# Altium integrated library Linear Technology Power Management LDO Linear Regulators.IntLib: 2339 symbols (part 2 of 131)
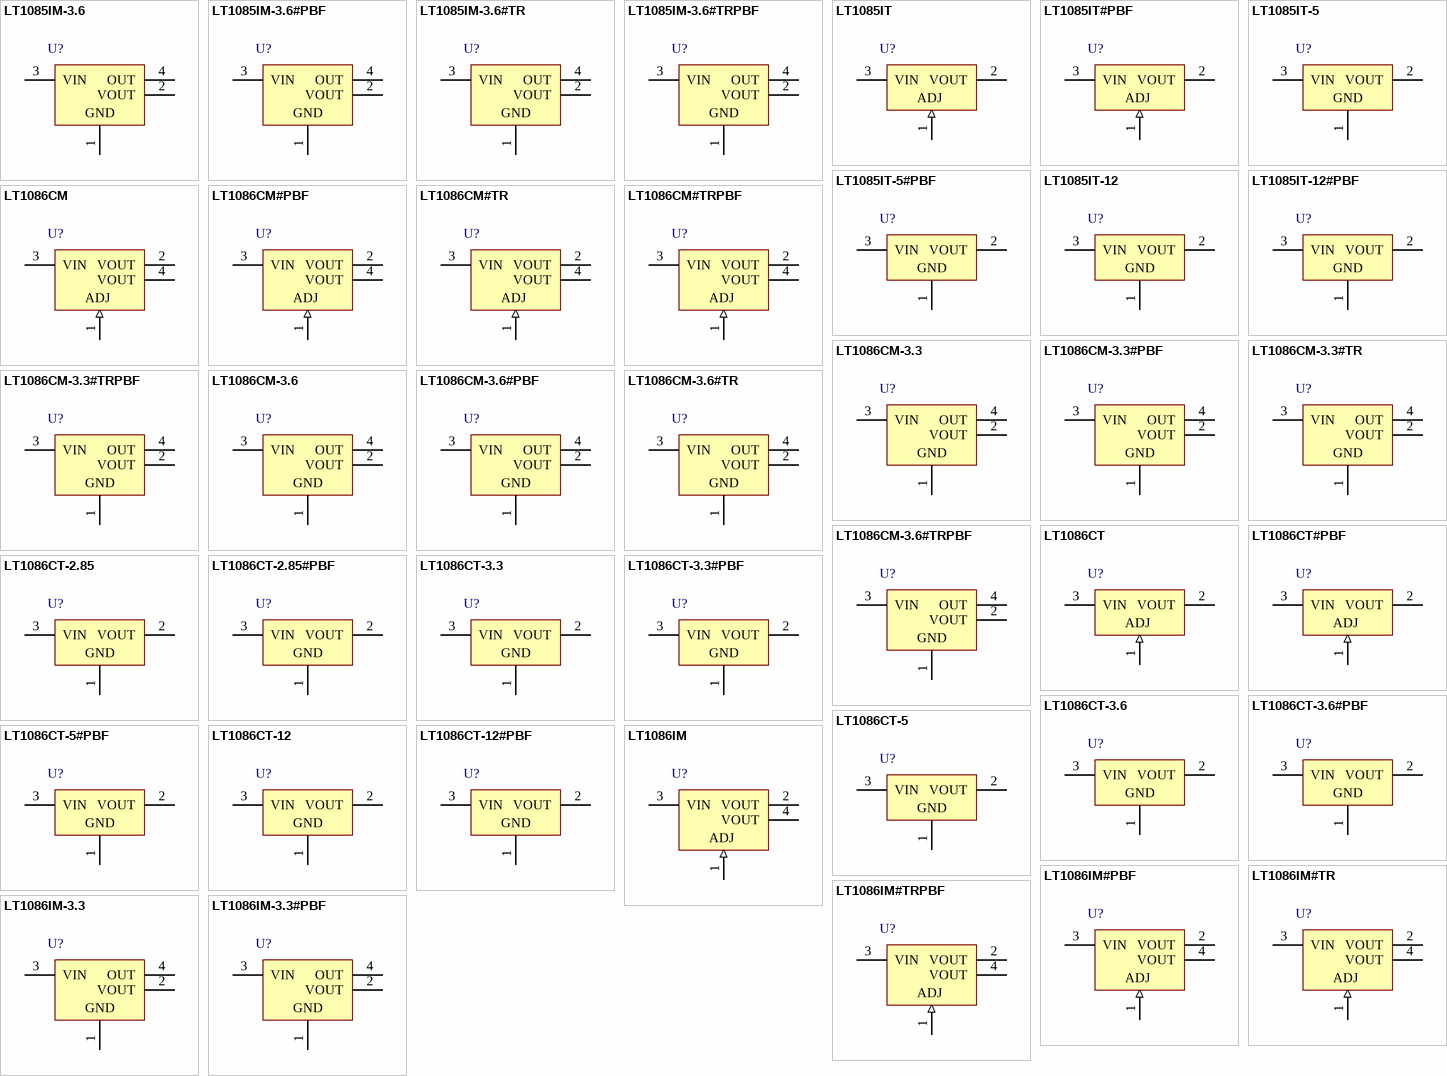
[diagram p70: symbols LT1085IM-3.6 to LT1086IM-3.3#PBF]

## LT1085IM-3.6
designator U?
3 A Low Dropout Positive Regulator, 4.3 to 25 V Vin, 3.6 V Vout, 3-pin DPAK (M-3), -40 to 150 degC; Manufacturer: Linear Technology; PartNumber: LT1085IM-3.6; Discrete Pass Element: no; Dropout Voltage(V): 1.3; Iout(mA): 3000; Isupply(mA): 5; Number of Outputs: 1; Output Voltage: 3.6 V; PSRR(dB): 72; Vin Max(V): 25; Vin Min(V): 4.3; DatasheetVersion: Rev. D; PackageVersion: Rev. F, 05/2012; PackageReference: M-3; PackageDescription: 3-Pin Plastic DD Pak, Body 10.2235 x 8.89 mm, Pitch 2.54 mm; Supplier 1: Digi-Key; Supplier Part Number 1: LT1085IM-3.6-ND; RoHS: FALSE; Mounting Technology: Surface Mount; ComponentLink1Description: Manufacturer URL; ComponentLink1URL: http://www.linear.com/; ComponentLink2Description: Datasheet; ComponentLink2URL: http://cds.linear.com/docs/en/datasheet/1083ffd.pdf; ComponentLink3Description: Package Specification; ComponentLink3URL: http://cds.linear.com/docs/en/packaging/05081460_F_M.pdf
footprint LT-M-3_N (DPAK, 3-Leads, Body 10.55x9.4mm, Pitch 2.54mm, IPC Medium Density)
footprint LT-M-3_L (DPAK, 3-Leads, Body 10.55x9.4mm, Pitch 2.54mm, IPC High Density)
footprint LT-M-3_M (DPAK, 3-Leads, Body 10.55x9.4mm, Pitch 2.54mm, IPC Low Density)
pins: 1 GND (power), 2 VOUT (power), 3 VIN (power), 4 OUT (power)

## LT1085IM-3.6#PBF
designator U?
3 A Low Dropout Positive Regulator, 4.3 to 25 V Vin, 3.6 V Vout, 3-pin DPAK (M-3), -40 to 150 degC, Pb-Free; Manufacturer: Linear Technology; PartNumber: LT1085IM-3.6#PBF; Discrete Pass Element: no; Dropout Voltage(V): 1.3; Iout(mA): 3000; Isupply(mA): 5; Number of Outputs: 1; Output Voltage: 3.6 V; PSRR(dB): 72; Vin Max(V): 25; Vin Min(V): 4.3; DatasheetVersion: Rev. D; PackageVersion: Rev. F, 05/2012; PackageReference: M-3; PackageDescription: 3-Pin Plastic DD Pak, Body 10.2235 x 8.89 mm, Pitch 2.54 mm; Supplier 1: Newark; Supplier Part Number 1: 57M1524; RoHS: TRUE; Mounting Technology: Surface Mount; ComponentLink1Description: Manufacturer URL; ComponentLink1URL: http://www.linear.com/; ComponentLink2Description: Datasheet; ComponentLink2URL: http://cds.linear.com/docs/en/datasheet/1083ffd.pdf; ComponentLink3Description: Package Specification; ComponentLink3URL: http://cds.linear.com/docs/en/packaging/05081460_F_M.pdf
footprint LT-M-3_N (DPAK, 3-Leads, Body 10.55x9.4mm, Pitch 2.54mm, IPC Medium Density)
footprint LT-M-3_L (DPAK, 3-Leads, Body 10.55x9.4mm, Pitch 2.54mm, IPC High Density)
footprint LT-M-3_M (DPAK, 3-Leads, Body 10.55x9.4mm, Pitch 2.54mm, IPC Low Density)
pins: 1 GND (power), 2 VOUT (power), 3 VIN (power), 4 OUT (power)

## LT1085IM-3.6#TR
designator U?
3 A Low Dropout Positive Regulator, 4.3 to 25 V Vin, 3.6 V Vout, 3-pin DPAK (M-3), -40 to 150 degC, Tape and Reel; Manufacturer: Linear Technology; PartNumber: LT1085IM-3.6#TR; Discrete Pass Element: no; Dropout Voltage(V): 1.3; Iout(mA): 3000; Isupply(mA): 5; Number of Outputs: 1; Output Voltage: 3.6 V; PSRR(dB): 72; Vin Max(V): 25; Vin Min(V): 4.3; DatasheetVersion: Rev. D; PackageVersion: Rev. F, 05/2012; PackageReference: M-3; PackageDescription: 3-Pin Plastic DD Pak, Body 10.2235 x 8.89 mm, Pitch 2.54 mm; Supplier 1: Digi-Key; Supplier Part Number 1: LT1085IM-3.6#TR-ND; Packing: Tape and Reel; RoHS: FALSE; Mounting Technology: Surface Mount; ComponentLink1Description: Manufacturer URL; ComponentLink1URL: http://www.linear.com/; ComponentLink2Description: Datasheet; ComponentLink2URL: http://cds.linear.com/docs/en/datasheet/1083ffd.pdf; ComponentLink3Description: Package Specification; ComponentLink3URL: http://cds.linear.com/docs/en/packaging/05081460_F_M.pdf
footprint LT-M-3_N (DPAK, 3-Leads, Body 10.55x9.4mm, Pitch 2.54mm, IPC Medium Density)
footprint LT-M-3_L (DPAK, 3-Leads, Body 10.55x9.4mm, Pitch 2.54mm, IPC High Density)
footprint LT-M-3_M (DPAK, 3-Leads, Body 10.55x9.4mm, Pitch 2.54mm, IPC Low Density)
pins: 1 GND (power), 2 VOUT (power), 3 VIN (power), 4 OUT (power)

## LT1085IM-3.6#TRPBF
designator U?
3 A Low Dropout Positive Regulator, 4.3 to 25 V Vin, 3.6 V Vout, 3-pin DPAK (M-3), -40 to 150 degC, Pb-Free, Tape and Reel; Manufacturer: Linear Technology; PartNumber: LT1085IM-3.6#TRPBF; Discrete Pass Element: no; Dropout Voltage(V): 1.3; Iout(mA): 3000; Isupply(mA): 5; Number of Outputs: 1; Output Voltage: 3.6 V; PSRR(dB): 72; Vin Max(V): 25; Vin Min(V): 4.3; DatasheetVersion: Rev. D; PackageVersion: Rev. F, 05/2012; PackageReference: M-3; PackageDescription: 3-Pin Plastic DD Pak, Body 10.2235 x 8.89 mm, Pitch 2.54 mm; Supplier 1: Digi-Key; Supplier Part Number 1: LT1085IM-3.6#TRPBF-ND; Packing: Tape and Reel; RoHS: TRUE; Mounting Technology: Surface Mount; ComponentLink1Description: Manufacturer URL; ComponentLink1URL: http://www.linear.com/; ComponentLink2Description: Datasheet; ComponentLink2URL: http://cds.linear.com/docs/en/datasheet/1083ffd.pdf; ComponentLink3Description: Package Specification; ComponentLink3URL: http://cds.linear.com/docs/en/packaging/05081460_F_M.pdf
footprint LT-M-3_N (DPAK, 3-Leads, Body 10.55x9.4mm, Pitch 2.54mm, IPC Medium Density)
footprint LT-M-3_L (DPAK, 3-Leads, Body 10.55x9.4mm, Pitch 2.54mm, IPC High Density)
footprint LT-M-3_M (DPAK, 3-Leads, Body 10.55x9.4mm, Pitch 2.54mm, IPC Low Density)
pins: 1 GND (power), 2 VOUT (power), 3 VIN (power), 4 OUT (power)

## LT1085IT
designator U?
3 A Low Dropout Positive Regulator, 2.55 to 30 V Vin, Adjustable Vout, 3-pin FM (T-3), -40 to 150 degC; Manufacturer: Linear Technology; PartNumber: LT1085IT; Discrete Pass Element: no; Dropout Voltage(V): 1.3; Iout(mA): 3000; Isupply(mA): 5; Number of Outputs: 1; Output Voltage: Adj; PSRR(dB): 75; Vin Max(V): 30; Vin Min(V): 2.55; Vout Max(V): 28.5; Vout Min(V): 1.25; DatasheetVersion: Rev. G; PackageVersion: Jun-10; PackageReference: T-3; PackageDescription: 3-Pin Plastic TO-220, Body 10.2235 x 4.3815 mm, Pitch 2.54 mm; Supplier 1: Digi-Key; Supplier Part Number 1: LT1085IT-ND; Supplier 2: Newark; Supplier Part Number 2: 57M1527; RoHS: FALSE; Mounting Technology: Through Hole; ComponentLink1Description: Manufacturer URL; ComponentLink1URL: http://www.linear.com/; ComponentLink2Description: Datasheet; ComponentLink2URL: http://cds.linear.com/docs/en/datasheet/108345fg.pdf; ComponentLink3Description: Package Specification; ComponentLink3URL: http://cds.linear.com/docs/en/packaging/TO-220_3_05-08-1420.pdf
footprint LT-T-3 (T, 3-Leads, Body 10.55x4.6mm, Pitch 2.54mm)
pins: 1 ADJ (in), 2 VOUT (power), 3 VIN (power)

## LT1085IT#PBF
designator U?
3 A Low Dropout Positive Regulator, 2.55 to 30 V Vin, Adjustable Vout, 3-pin FM (T-3), -40 to 150 degC, Pb-Free; Manufacturer: Linear Technology; PartNumber: LT1085IT#PBF; Discrete Pass Element: no; Dropout Voltage(V): 1.3; Iout(mA): 3000; Isupply(mA): 5; Number of Outputs: 1; Output Voltage: Adj; PSRR(dB): 75; Vin Max(V): 30; Vin Min(V): 2.55; Vout Max(V): 28.5; Vout Min(V): 1.25; DatasheetVersion: Rev. G; PackageVersion: Jun-10; PackageReference: T-3; PackageDescription: 3-Pin Plastic TO-220, Body 10.2235 x 4.3815 mm, Pitch 2.54 mm; Supplier 1: Digi-Key; Supplier Part Number 1: LT1085IT#PBF-ND; Supplier 2: Farnell; Supplier Part Number 2: 2115899; Supplier 3: Newark; Supplier Part Number 3: 57M1532; RoHS: TRUE; Mounting Technology: Through Hole; ComponentLink1Description: Manufacturer URL; ComponentLink1URL: http://www.linear.com/; ComponentLink2Description: Datasheet; ComponentLink2URL: http://cds.linear.com/docs/en/datasheet/108345fg.pdf; ComponentLink3Description: Package Specification; ComponentLink3URL: http://cds.linear.com/docs/en/packaging/TO-220_3_05-08-1420.pdf
footprint LT-T-3 (T, 3-Leads, Body 10.55x4.6mm, Pitch 2.54mm)
pins: 1 ADJ (in), 2 VOUT (power), 3 VIN (power)

## LT1085IT-5
designator U?
3 A Low Dropout Positive Regulator, 4.3 to 25 V Vin, 5 V Vout, 3-pin FM (T-3), -40 to 150 degC; Manufacturer: Linear Technology; PartNumber: LT1085IT-5; Discrete Pass Element: no; Dropout Voltage(V): 1.3; Iout(mA): 3000; Isupply(mA): 5; Number of Outputs: 1; Output Voltage: 5 V; PSRR(dB): 72; Vin Max(V): 25; Vin Min(V): 4.3; DatasheetVersion: Rev. D; PackageVersion: Jun-10; PackageReference: T-3; PackageDescription: 3-Pin Plastic TO-220, Body 10.2235 x 4.3815 mm, Pitch 2.54 mm; Supplier 1: Digi-Key; Supplier Part Number 1: LT1085IT-5-ND; RoHS: FALSE; Mounting Technology: Through Hole; ComponentLink1Description: Manufacturer URL; ComponentLink1URL: http://www.linear.com/; ComponentLink2Description: Datasheet; ComponentLink2URL: http://cds.linear.com/docs/en/datasheet/1083ffd.pdf; ComponentLink3Description: Package Specification; ComponentLink3URL: http://cds.linear.com/docs/en/packaging/TO-220_3_05-08-1420.pdf
footprint LT-T-3 (T, 3-Leads, Body 10.55x4.6mm, Pitch 2.54mm)
pins: 1 GND (power), 2 VOUT (power), 3 VIN (power)

## LT1085IT-5#PBF
designator U?
3 A Low Dropout Positive Regulator, 4.3 to 25 V Vin, 5 V Vout, 3-pin FM (T-3), -40 to 150 degC, Pb-Free; Manufacturer: Linear Technology; PartNumber: LT1085IT-5#PBF; Discrete Pass Element: no; Dropout Voltage(V): 1.3; Iout(mA): 3000; Isupply(mA): 5; Number of Outputs: 1; Output Voltage: 5 V; PSRR(dB): 72; Vin Max(V): 25; Vin Min(V): 4.3; DatasheetVersion: Rev. D; PackageVersion: Jun-10; PackageReference: T-3; PackageDescription: 3-Pin Plastic TO-220, Body 10.2235 x 4.3815 mm, Pitch 2.54 mm; Supplier 1: Digi-Key; Supplier Part Number 1: LT1085IT-5#PBF-ND; RoHS: TRUE; Mounting Technology: Through Hole; ComponentLink1Description: Manufacturer URL; ComponentLink1URL: http://www.linear.com/; ComponentLink2Description: Datasheet; ComponentLink2URL: http://cds.linear.com/docs/en/datasheet/1083ffd.pdf; ComponentLink3Description: Package Specification; ComponentLink3URL: http://cds.linear.com/docs/en/packaging/TO-220_3_05-08-1420.pdf
footprint LT-T-3 (T, 3-Leads, Body 10.55x4.6mm, Pitch 2.54mm)
pins: 1 GND (power), 2 VOUT (power), 3 VIN (power)

## LT1085IT-12
designator U?
3 A Low Dropout Positive Regulator, 4.3 to 25 V Vin, 12 V Vout, 3-pin FM (T-3), -40 to 150 degC; Manufacturer: Linear Technology; PartNumber: LT1085IT-12; Discrete Pass Element: no; Dropout Voltage(V): 1.3; Iout(mA): 3000; Isupply(mA): 5; Number of Outputs: 1; Output Voltage: 12 V; PSRR(dB): 72; Vin Max(V): 25; Vin Min(V): 4.3; DatasheetVersion: Rev. D; PackageVersion: Jun-10; PackageReference: T-3; PackageDescription: 3-Pin Plastic TO-220, Body 10.2235 x 4.3815 mm, Pitch 2.54 mm; Supplier 1: Digi-Key; Supplier Part Number 1: LT1085IT-12-ND; RoHS: FALSE; Mounting Technology: Through Hole; ComponentLink1Description: Manufacturer URL; ComponentLink1URL: http://www.linear.com/; ComponentLink2Description: Datasheet; ComponentLink2URL: http://cds.linear.com/docs/en/datasheet/1083ffd.pdf; ComponentLink3Description: Package Specification; ComponentLink3URL: http://cds.linear.com/docs/en/packaging/TO-220_3_05-08-1420.pdf
footprint LT-T-3 (T, 3-Leads, Body 10.55x4.6mm, Pitch 2.54mm)
pins: 1 GND (power), 2 VOUT (power), 3 VIN (power)

## LT1085IT-12#PBF
designator U?
3 A Low Dropout Positive Regulator, 4.3 to 25 V Vin, 12 V Vout, 3-pin FM (T-3), -40 to 150 degC, Pb-Free; Manufacturer: Linear Technology; PartNumber: LT1085IT-12#PBF; Discrete Pass Element: no; Dropout Voltage(V): 1.3; Iout(mA): 3000; Isupply(mA): 5; Number of Outputs: 1; Output Voltage: 12 V; PSRR(dB): 72; Vin Max(V): 25; Vin Min(V): 4.3; DatasheetVersion: Rev. D; PackageVersion: Jun-10; PackageReference: T-3; PackageDescription: 3-Pin Plastic TO-220, Body 10.2235 x 4.3815 mm, Pitch 2.54 mm; Supplier 1: Digi-Key; Supplier Part Number 1: LT1085IT-12#PBF-ND; Supplier 2: Newark; Supplier Part Number 2: 57M1529; RoHS: TRUE; Mounting Technology: Through Hole; ComponentLink1Description: Manufacturer URL; ComponentLink1URL: http://www.linear.com/; ComponentLink2Description: Datasheet; ComponentLink2URL: http://cds.linear.com/docs/en/datasheet/1083ffd.pdf; ComponentLink3Description: Package Specification; ComponentLink3URL: http://cds.linear.com/docs/en/packaging/TO-220_3_05-08-1420.pdf
footprint LT-T-3 (T, 3-Leads, Body 10.55x4.6mm, Pitch 2.54mm)
pins: 1 GND (power), 2 VOUT (power), 3 VIN (power)

## LT1086CM
designator U?
1.5 A Low Dropout Positive Regulator, 2.55 to 25 V Vin, Adjustable Vout, 3-pin DPAK (M-3), 0 to 150 degC; Manufacturer: Linear Technology; PartNumber: LT1086CM; Discrete Pass Element: no; Dropout Voltage(V): 1.3; Iout(mA): 1500; Isupply(mA): 5; Number of Outputs: 1; Output Voltage: Adj; PSRR(dB): 75; Vin Max(V): 25; Vin Min(V): 2.55; Vout Max(V): 23.5; Vout Min(V): 1.25; DatasheetVersion: Rev. F; PackageVersion: Rev. F, 05/2012; PackageReference: M-3; PackageDescription: 3-Pin Plastic DD Pak, Body 10.2235 x 8.89 mm, Pitch 2.54 mm; Supplier 1: Digi-Key; Supplier Part Number 1: LT1086CM-ND; Supplier 2: Newark; Supplier Part Number 2: 57M1533; RoHS: FALSE; Mounting Technology: Surface Mount; ComponentLink1Description: Manufacturer URL; ComponentLink1URL: http://www.linear.com/; ComponentLink2Description: Datasheet; ComponentLink2URL: http://cds.linear.com/docs/en/datasheet/1086ffs.pdf; ComponentLink3Description: Package Specification; ComponentLink3URL: http://cds.linear.com/docs/en/packaging/05081460_F_M.pdf
footprint LT-M-3_N (DPAK, 3-Leads, Body 10.55x9.4mm, Pitch 2.54mm, IPC Medium Density)
footprint LT-M-3_L (DPAK, 3-Leads, Body 10.55x9.4mm, Pitch 2.54mm, IPC High Density)
footprint LT-M-3_M (DPAK, 3-Leads, Body 10.55x9.4mm, Pitch 2.54mm, IPC Low Density)
pins: 1 ADJ (in), 2 VOUT (power), 3 VIN (power), 4 VOUT (power)

## LT1086CM#PBF
designator U?
1.5 A Low Dropout Positive Regulator, 2.55 to 25 V Vin, Adjustable Vout, 3-pin DPAK (M-3), 0 to 150 degC, Pb-Free; Manufacturer: Linear Technology; PartNumber: LT1086CM#PBF; Discrete Pass Element: no; Dropout Voltage(V): 1.3; Iout(mA): 1500; Isupply(mA): 5; Number of Outputs: 1; Output Voltage: Adj; PSRR(dB): 75; Vin Max(V): 25; Vin Min(V): 2.55; Vout Max(V): 23.5; Vout Min(V): 1.25; DatasheetVersion: Rev. F; PackageVersion: Rev. F, 05/2012; PackageReference: M-3; PackageDescription: 3-Pin Plastic DD Pak, Body 10.2235 x 8.89 mm, Pitch 2.54 mm; Supplier 1: Digi-Key; Supplier Part Number 1: LT1086CM#PBF-ND; Supplier 2: Farnell; Supplier Part Number 2: 9559850; Supplier 3: Newark; Supplier Part Number 3: 57M1542; RoHS: TRUE; Mounting Technology: Surface Mount; ComponentLink1Description: Manufacturer URL; ComponentLink1URL: http://www.linear.com/; ComponentLink2Description: Datasheet; ComponentLink2URL: http://cds.linear.com/docs/en/datasheet/1086ffs.pdf; ComponentLink3Description: Package Specification; ComponentLink3URL: http://cds.linear.com/docs/en/packaging/05081460_F_M.pdf
footprint LT-M-3_N (DPAK, 3-Leads, Body 10.55x9.4mm, Pitch 2.54mm, IPC Medium Density)
footprint LT-M-3_L (DPAK, 3-Leads, Body 10.55x9.4mm, Pitch 2.54mm, IPC High Density)
footprint LT-M-3_M (DPAK, 3-Leads, Body 10.55x9.4mm, Pitch 2.54mm, IPC Low Density)
pins: 1 ADJ (in), 2 VOUT (power), 3 VIN (power), 4 VOUT (power)

## LT1086CM#TR
designator U?
1.5 A Low Dropout Positive Regulator, 2.55 to 25 V Vin, Adjustable Vout, 3-pin DPAK (M-3), 0 to 150 degC, Tape and Reel; Manufacturer: Linear Technology; PartNumber: LT1086CM#TR; Discrete Pass Element: no; Dropout Voltage(V): 1.3; Iout(mA): 1500; Isupply(mA): 5; Number of Outputs: 1; Output Voltage: Adj; PSRR(dB): 75; Vin Max(V): 25; Vin Min(V): 2.55; Vout Max(V): 23.5; Vout Min(V): 1.25; DatasheetVersion: Rev. F; PackageVersion: Rev. F, 05/2012; PackageReference: M-3; PackageDescription: 3-Pin Plastic DD Pak, Body 10.2235 x 8.89 mm, Pitch 2.54 mm; Supplier 1: Digi-Key; Supplier Part Number 1: LT1086CM#TR-ND; Packing: Tape and Reel; RoHS: FALSE; Mounting Technology: Surface Mount; ComponentLink1Description: Manufacturer URL; ComponentLink1URL: http://www.linear.com/; ComponentLink2Description: Datasheet; ComponentLink2URL: http://cds.linear.com/docs/en/datasheet/1086ffs.pdf; ComponentLink3Description: Package Specification; ComponentLink3URL: http://cds.linear.com/docs/en/packaging/05081460_F_M.pdf
footprint LT-M-3_N (DPAK, 3-Leads, Body 10.55x9.4mm, Pitch 2.54mm, IPC Medium Density)
footprint LT-M-3_L (DPAK, 3-Leads, Body 10.55x9.4mm, Pitch 2.54mm, IPC High Density)
footprint LT-M-3_M (DPAK, 3-Leads, Body 10.55x9.4mm, Pitch 2.54mm, IPC Low Density)
pins: 1 ADJ (in), 2 VOUT (power), 3 VIN (power), 4 VOUT (power)

## LT1086CM#TRPBF
designator U?
1.5 A Low Dropout Positive Regulator, 2.55 to 25 V Vin, Adjustable Vout, 3-pin DPAK (M-3), 0 to 150 degC, Pb-Free, Tape and Reel; Manufacturer: Linear Technology; PartNumber: LT1086CM#TRPBF; Discrete Pass Element: no; Dropout Voltage(V): 1.3; Iout(mA): 1500; Isupply(mA): 5; Number of Outputs: 1; Output Voltage: Adj; PSRR(dB): 75; Vin Max(V): 25; Vin Min(V): 2.55; Vout Max(V): 23.5; Vout Min(V): 1.25; DatasheetVersion: Rev. F; PackageVersion: Rev. F, 05/2012; PackageReference: M-3; PackageDescription: 3-Pin Plastic DD Pak, Body 10.2235 x 8.89 mm, Pitch 2.54 mm; Supplier 1: Digi-Key; Supplier Part Number 1: LT1086CM#TRPBFTR-ND; Supplier 2: Digi-Key; Supplier Part Number 2: LT1086CM#TRPBFCT-ND; Supplier 3: Digi-Key; Supplier Part Number 3: LT1086CM#TRPBFDKR-ND; Supplier 4: Newark; Supplier Part Number 4: 57M1544; Packing: Tape and Reel; RoHS: TRUE; Mounting Technology: Surface Mount; ComponentLink1Description: Manufacturer URL; ComponentLink1URL: http://www.linear.com/; ComponentLink2Description: Datasheet; ComponentLink2URL: http://cds.linear.com/docs/en/datasheet/1086ffs.pdf; ComponentLink3Description: Package Specification; ComponentLink3URL: http://cds.linear.com/docs/en/packaging/05081460_F_M.pdf
footprint LT-M-3_N (DPAK, 3-Leads, Body 10.55x9.4mm, Pitch 2.54mm, IPC Medium Density)
footprint LT-M-3_L (DPAK, 3-Leads, Body 10.55x9.4mm, Pitch 2.54mm, IPC High Density)
footprint LT-M-3_M (DPAK, 3-Leads, Body 10.55x9.4mm, Pitch 2.54mm, IPC Low Density)
pins: 1 ADJ (in), 2 VOUT (power), 3 VIN (power), 4 VOUT (power)

## LT1086CM-3.3
designator U?
1.5 A Low Dropout Positive Regulator, 2.55 to 25 V Vin, 3.3 V Vout, 3-pin DPAK (M-3), 0 to 150 degC; Manufacturer: Linear Technology; PartNumber: LT1086CM-3.3; Discrete Pass Element: no; Dropout Voltage(V): 1.3; Iout(mA): 1500; Isupply(mA): 5; Number of Outputs: 1; Output Voltage: 3.3 V; PSRR(dB): 72; Vin Max(V): 25; Vin Min(V): 2.55; DatasheetVersion: Rev. F; PackageVersion: Rev. F, 05/2012; PackageReference: M-3; PackageDescription: 3-Pin Plastic DD Pak, Body 10.2235 x 8.89 mm, Pitch 2.54 mm; Supplier 1: Digi-Key; Supplier Part Number 1: LT1086CM-3.3-ND; Supplier 2: Newark; Supplier Part Number 2: 57M1534; RoHS: FALSE; Mounting Technology: Surface Mount; ComponentLink1Description: Manufacturer URL; ComponentLink1URL: http://www.linear.com/; ComponentLink2Description: Datasheet; ComponentLink2URL: http://cds.linear.com/docs/en/datasheet/1086ffs.pdf; ComponentLink3Description: Package Specification; ComponentLink3URL: http://cds.linear.com/docs/en/packaging/05081460_F_M.pdf
footprint LT-M-3_N (DPAK, 3-Leads, Body 10.55x9.4mm, Pitch 2.54mm, IPC Medium Density)
footprint LT-M-3_L (DPAK, 3-Leads, Body 10.55x9.4mm, Pitch 2.54mm, IPC High Density)
footprint LT-M-3_M (DPAK, 3-Leads, Body 10.55x9.4mm, Pitch 2.54mm, IPC Low Density)
pins: 1 GND (power), 2 VOUT (power), 3 VIN (power), 4 OUT (power)

## LT1086CM-3.3#PBF
designator U?
1.5 A Low Dropout Positive Regulator, 2.55 to 25 V Vin, 3.3 V Vout, 3-pin DPAK (M-3), 0 to 150 degC, Pb-Free; Manufacturer: Linear Technology; PartNumber: LT1086CM-3.3#PBF; Discrete Pass Element: no; Dropout Voltage(V): 1.3; Iout(mA): 1500; Isupply(mA): 5; Number of Outputs: 1; Output Voltage: 3.3 V; PSRR(dB): 72; Vin Max(V): 25; Vin Min(V): 2.55; DatasheetVersion: Rev. F; PackageVersion: Rev. F, 05/2012; PackageReference: M-3; PackageDescription: 3-Pin Plastic DD Pak, Body 10.2235 x 8.89 mm, Pitch 2.54 mm; Supplier 1: Digi-Key; Supplier Part Number 1: LT1086CM-3.3#PBF-ND; Supplier 2: Farnell; Supplier Part Number 2: 1273561; Supplier 3: Newark; Supplier Part Number 3: 57M1535; RoHS: TRUE; Mounting Technology: Surface Mount; ComponentLink1Description: Manufacturer URL; ComponentLink1URL: http://www.linear.com/; ComponentLink2Description: Datasheet; ComponentLink2URL: http://cds.linear.com/docs/en/datasheet/1086ffs.pdf; ComponentLink3Description: Package Specification; ComponentLink3URL: http://cds.linear.com/docs/en/packaging/05081460_F_M.pdf
footprint LT-M-3_N (DPAK, 3-Leads, Body 10.55x9.4mm, Pitch 2.54mm, IPC Medium Density)
footprint LT-M-3_L (DPAK, 3-Leads, Body 10.55x9.4mm, Pitch 2.54mm, IPC High Density)
footprint LT-M-3_M (DPAK, 3-Leads, Body 10.55x9.4mm, Pitch 2.54mm, IPC Low Density)
pins: 1 GND (power), 2 VOUT (power), 3 VIN (power), 4 OUT (power)

## LT1086CM-3.3#TR
designator U?
1.5 A Low Dropout Positive Regulator, 2.55 to 25 V Vin, 3.3 V Vout, 3-pin DPAK (M-3), 0 to 150 degC, Tape and Reel; Manufacturer: Linear Technology; PartNumber: LT1086CM-3.3#TR; Discrete Pass Element: no; Dropout Voltage(V): 1.3; Iout(mA): 1500; Isupply(mA): 5; Number of Outputs: 1; Output Voltage: 3.3 V; PSRR(dB): 72; Vin Max(V): 25; Vin Min(V): 2.55; DatasheetVersion: Rev. F; PackageVersion: Rev. F, 05/2012; PackageReference: M-3; PackageDescription: 3-Pin Plastic DD Pak, Body 10.2235 x 8.89 mm, Pitch 2.54 mm; Supplier 1: Digi-Key; Supplier Part Number 1: LT1086CM-3.3#TR-ND; Supplier 2: Newark; Supplier Part Number 2: 57M1536; Packing: Tape and Reel; RoHS: FALSE; Mounting Technology: Surface Mount; ComponentLink1Description: Manufacturer URL; ComponentLink1URL: http://www.linear.com/; ComponentLink2Description: Datasheet; ComponentLink2URL: http://cds.linear.com/docs/en/datasheet/1086ffs.pdf; ComponentLink3Description: Package Specification; ComponentLink3URL: http://cds.linear.com/docs/en/packaging/05081460_F_M.pdf
footprint LT-M-3_N (DPAK, 3-Leads, Body 10.55x9.4mm, Pitch 2.54mm, IPC Medium Density)
footprint LT-M-3_L (DPAK, 3-Leads, Body 10.55x9.4mm, Pitch 2.54mm, IPC High Density)
footprint LT-M-3_M (DPAK, 3-Leads, Body 10.55x9.4mm, Pitch 2.54mm, IPC Low Density)
pins: 1 GND (power), 2 VOUT (power), 3 VIN (power), 4 OUT (power)

## LT1086CM-3.3#TRPBF
designator U?
1.5 A Low Dropout Positive Regulator, 2.55 to 25 V Vin, 3.3 V Vout, 3-pin DPAK (M-3), 0 to 150 degC, Pb-Free, Tape and Reel; Manufacturer: Linear Technology; PartNumber: LT1086CM-3.3#TRPBF; Discrete Pass Element: no; Dropout Voltage(V): 1.3; Iout(mA): 1500; Isupply(mA): 5; Number of Outputs: 1; Output Voltage: 3.3 V; PSRR(dB): 72; Vin Max(V): 25; Vin Min(V): 2.55; DatasheetVersion: Rev. F; PackageVersion: Rev. F, 05/2012; PackageReference: M-3; PackageDescription: 3-Pin Plastic DD Pak, Body 10.2235 x 8.89 mm, Pitch 2.54 mm; Supplier 1: Digi-Key; Supplier Part Number 1: LT1086CM-3.3#TRPBFTR-ND; Supplier 2: Digi-Key; Supplier Part Number 2: LT1086CM-3.3#TRPBFCT-ND; Supplier 3: Digi-Key; Supplier Part Number 3: LT1086CM-3.3#TRPBFDKR-ND; Supplier 4: Newark; Supplier Part Number 4: 57M1537; Packing: Tape and Reel; RoHS: TRUE; Mounting Technology: Surface Mount; ComponentLink1Description: Manufacturer URL; ComponentLink1URL: http://www.linear.com/; ComponentLink2Description: Datasheet; ComponentLink2URL: http://cds.linear.com/docs/en/datasheet/1086ffs.pdf; ComponentLink3Description: Package Specification; ComponentLink3URL: http://cds.linear.com/docs/en/packaging/05081460_F_M.pdf
footprint LT-M-3_N (DPAK, 3-Leads, Body 10.55x9.4mm, Pitch 2.54mm, IPC Medium Density)
footprint LT-M-3_L (DPAK, 3-Leads, Body 10.55x9.4mm, Pitch 2.54mm, IPC High Density)
footprint LT-M-3_M (DPAK, 3-Leads, Body 10.55x9.4mm, Pitch 2.54mm, IPC Low Density)
pins: 1 GND (power), 2 VOUT (power), 3 VIN (power), 4 OUT (power)

## LT1086CM-3.6
designator U?
1.5 A Low Dropout Positive Regulator, 2.55 to 25 V Vin, 3.6 V Vout, 3-pin DPAK (M-3), 0 to 150 degC; Manufacturer: Linear Technology; PartNumber: LT1086CM-3.6; Discrete Pass Element: no; Dropout Voltage(V): 1.3; Iout(mA): 1500; Isupply(mA): 5; Number of Outputs: 1; Output Voltage: 3.6 V; PSRR(dB): 72; Vin Max(V): 25; Vin Min(V): 2.55; DatasheetVersion: Rev. F; PackageVersion: Rev. F, 05/2012; PackageReference: M-3; PackageDescription: 3-Pin Plastic DD Pak, Body 10.2235 x 8.89 mm, Pitch 2.54 mm; Supplier 1: Digi-Key; Supplier Part Number 1: LT1086CM-3.6-ND; RoHS: FALSE; Mounting Technology: Surface Mount; ComponentLink1Description: Manufacturer URL; ComponentLink1URL: http://www.linear.com/; ComponentLink2Description: Datasheet; ComponentLink2URL: http://cds.linear.com/docs/en/datasheet/1086ffs.pdf; ComponentLink3Description: Package Specification; ComponentLink3URL: http://cds.linear.com/docs/en/packaging/05081460_F_M.pdf
footprint LT-M-3_N (DPAK, 3-Leads, Body 10.55x9.4mm, Pitch 2.54mm, IPC Medium Density)
footprint LT-M-3_L (DPAK, 3-Leads, Body 10.55x9.4mm, Pitch 2.54mm, IPC High Density)
footprint LT-M-3_M (DPAK, 3-Leads, Body 10.55x9.4mm, Pitch 2.54mm, IPC Low Density)
pins: 1 GND (power), 2 VOUT (power), 3 VIN (power), 4 OUT (power)

## LT1086CM-3.6#PBF
designator U?
1.5 A Low Dropout Positive Regulator, 2.55 to 25 V Vin, 3.6 V Vout, 3-pin DPAK (M-3), 0 to 150 degC, Pb-Free; Manufacturer: Linear Technology; PartNumber: LT1086CM-3.6#PBF; Discrete Pass Element: no; Dropout Voltage(V): 1.3; Iout(mA): 1500; Isupply(mA): 5; Number of Outputs: 1; Output Voltage: 3.6 V; PSRR(dB): 72; Vin Max(V): 25; Vin Min(V): 2.55; DatasheetVersion: Rev. F; PackageVersion: Rev. F, 05/2012; PackageReference: M-3; PackageDescription: 3-Pin Plastic DD Pak, Body 10.2235 x 8.89 mm, Pitch 2.54 mm; Supplier 1: Digi-Key; Supplier Part Number 1: LT1086CM-3.6#PBF-ND; Supplier 2: Newark; Supplier Part Number 2: 57M1539; RoHS: TRUE; Mounting Technology: Surface Mount; ComponentLink1Description: Manufacturer URL; ComponentLink1URL: http://www.linear.com/; ComponentLink2Description: Datasheet; ComponentLink2URL: http://cds.linear.com/docs/en/datasheet/1086ffs.pdf; ComponentLink3Description: Package Specification; ComponentLink3URL: http://cds.linear.com/docs/en/packaging/05081460_F_M.pdf
footprint LT-M-3_N (DPAK, 3-Leads, Body 10.55x9.4mm, Pitch 2.54mm, IPC Medium Density)
footprint LT-M-3_L (DPAK, 3-Leads, Body 10.55x9.4mm, Pitch 2.54mm, IPC High Density)
footprint LT-M-3_M (DPAK, 3-Leads, Body 10.55x9.4mm, Pitch 2.54mm, IPC Low Density)
pins: 1 GND (power), 2 VOUT (power), 3 VIN (power), 4 OUT (power)

## LT1086CM-3.6#TR
designator U?
1.5 A Low Dropout Positive Regulator, 2.55 to 25 V Vin, 3.6 V Vout, 3-pin DPAK (M-3), 0 to 150 degC, Tape and Reel; Manufacturer: Linear Technology; PartNumber: LT1086CM-3.6#TR; Discrete Pass Element: no; Dropout Voltage(V): 1.3; Iout(mA): 1500; Isupply(mA): 5; Number of Outputs: 1; Output Voltage: 3.6 V; PSRR(dB): 72; Vin Max(V): 25; Vin Min(V): 2.55; DatasheetVersion: Rev. F; PackageVersion: Rev. F, 05/2012; PackageReference: M-3; PackageDescription: 3-Pin Plastic DD Pak, Body 10.2235 x 8.89 mm, Pitch 2.54 mm; Supplier 1: Digi-Key; Supplier Part Number 1: LT1086CM-3.6#TR-ND; Packing: Tape and Reel; RoHS: FALSE; Mounting Technology: Surface Mount; ComponentLink1Description: Manufacturer URL; ComponentLink1URL: http://www.linear.com/; ComponentLink2Description: Datasheet; ComponentLink2URL: http://cds.linear.com/docs/en/datasheet/1086ffs.pdf; ComponentLink3Description: Package Specification; ComponentLink3URL: http://cds.linear.com/docs/en/packaging/05081460_F_M.pdf
footprint LT-M-3_N (DPAK, 3-Leads, Body 10.55x9.4mm, Pitch 2.54mm, IPC Medium Density)
footprint LT-M-3_L (DPAK, 3-Leads, Body 10.55x9.4mm, Pitch 2.54mm, IPC High Density)
footprint LT-M-3_M (DPAK, 3-Leads, Body 10.55x9.4mm, Pitch 2.54mm, IPC Low Density)
pins: 1 GND (power), 2 VOUT (power), 3 VIN (power), 4 OUT (power)

## LT1086CM-3.6#TRPBF
designator U?
1.5 A Low Dropout Positive Regulator, 2.55 to 25 V Vin, 3.6 V Vout, 3-pin DPAK (M-3), 0 to 150 degC, Pb-Free, Tape and Reel; Manufacturer: Linear Technology; PartNumber: LT1086CM-3.6#TRPBF; Discrete Pass Element: no; Dropout Voltage(V): 1.3; Iout(mA): 1500; Isupply(mA): 5; Number of Outputs: 1; Output Voltage: 3.6 V; PSRR(dB): 72; Vin Max(V): 25; Vin Min(V): 2.55; DatasheetVersion: Rev. F; PackageVersion: Rev. F, 05/2012; PackageReference: M-3; PackageDescription: 3-Pin Plastic DD Pak, Body 10.2235 x 8.89 mm, Pitch 2.54 mm; Supplier 1: Digi-Key; Supplier Part Number 1: LT1086CM-3.6#TRPBF-ND; Packing: Tape and Reel; RoHS: TRUE; Mounting Technology: Surface Mount; ComponentLink1Description: Manufacturer URL; ComponentLink1URL: http://www.linear.com/; ComponentLink2Description: Datasheet; ComponentLink2URL: http://cds.linear.com/docs/en/datasheet/1086ffs.pdf; ComponentLink3Description: Package Specification; ComponentLink3URL: http://cds.linear.com/docs/en/packaging/05081460_F_M.pdf
footprint LT-M-3_N (DPAK, 3-Leads, Body 10.55x9.4mm, Pitch 2.54mm, IPC Medium Density)
footprint LT-M-3_L (DPAK, 3-Leads, Body 10.55x9.4mm, Pitch 2.54mm, IPC High Density)
footprint LT-M-3_M (DPAK, 3-Leads, Body 10.55x9.4mm, Pitch 2.54mm, IPC Low Density)
pins: 1 GND (power), 2 VOUT (power), 3 VIN (power), 4 OUT (power)

## LT1086CT
designator U?
1.5 A Low Dropout Positive Regulator, 2.55 to 25 V Vin, Adjustable Vout, 3-pin FM (T-3), 0 to 150 degC; Manufacturer: Linear Technology; PartNumber: LT1086CT; Discrete Pass Element: no; Dropout Voltage(V): 1.3; Iout(mA): 1500; Isupply(mA): 5; Number of Outputs: 1; Output Voltage: Adj; PSRR(dB): 75; Vin Max(V): 25; Vin Min(V): 2.55; Vout Max(V): 23.5; Vout Min(V): 1.25; DatasheetVersion: Rev. F; PackageVersion: Jun-10; PackageReference: T-3; PackageDescription: 3-Pin Plastic TO-220, Body 10.2235 x 4.3815 mm, Pitch 2.54 mm; Supplier 1: Digi-Key; Supplier Part Number 1: LT1086CT-ND; RoHS: FALSE; Mounting Technology: Through Hole; ComponentLink1Description: Manufacturer URL; ComponentLink1URL: http://www.linear.com/; ComponentLink2Description: Datasheet; ComponentLink2URL: http://cds.linear.com/docs/en/datasheet/1086ffs.pdf; ComponentLink3Description: Package Specification; ComponentLink3URL: http://cds.linear.com/docs/en/packaging/TO-220_3_05-08-1420.pdf
footprint LT-T-3 (T, 3-Leads, Body 10.55x4.6mm, Pitch 2.54mm)
pins: 1 ADJ (in), 2 VOUT (power), 3 VIN (power)

## LT1086CT#PBF
designator U?
1.5 A Low Dropout Positive Regulator, 2.55 to 25 V Vin, Adjustable Vout, 3-pin FM (T-3), 0 to 150 degC, Pb-Free; Manufacturer: Linear Technology; PartNumber: LT1086CT#PBF; Discrete Pass Element: no; Dropout Voltage(V): 1.3; Iout(mA): 1500; Isupply(mA): 5; Number of Outputs: 1; Output Voltage: Adj; PSRR(dB): 75; Vin Max(V): 25; Vin Min(V): 2.55; Vout Max(V): 23.5; Vout Min(V): 1.25; DatasheetVersion: Rev. F; PackageVersion: Jun-10; PackageReference: T-3; PackageDescription: 3-Pin Plastic TO-220, Body 10.2235 x 4.3815 mm, Pitch 2.54 mm; Supplier 1: Digi-Key; Supplier Part Number 1: LT1086CT#PBF-ND; Supplier 2: Farnell; Supplier Part Number 2: 9559868; Supplier 3: Farnell; Supplier Part Number 3: 1523872; Supplier 4: Newark; Supplier Part Number 4: 57M1556; RoHS: TRUE; Mounting Technology: Through Hole; ComponentLink1Description: Manufacturer URL; ComponentLink1URL: http://www.linear.com/; ComponentLink2Description: Datasheet; ComponentLink2URL: http://cds.linear.com/docs/en/datasheet/1086ffs.pdf; ComponentLink3Description: Package Specification; ComponentLink3URL: http://cds.linear.com/docs/en/packaging/TO-220_3_05-08-1420.pdf
footprint LT-T-3 (T, 3-Leads, Body 10.55x4.6mm, Pitch 2.54mm)
pins: 1 ADJ (in), 2 VOUT (power), 3 VIN (power)

## LT1086CT-2.85
designator U?
1.5 A Low Dropout Positive Regulator, 2.55 to 25 V Vin, 2.85 V Vout, 3-pin FM (T-3), 0 to 150 degC; Manufacturer: Linear Technology; PartNumber: LT1086CT-2.85; Discrete Pass Element: no; Dropout Voltage(V): 1.3; Iout(mA): 1500; Isupply(mA): 5; Number of Outputs: 1; Output Voltage: 2.85 V; PSRR(dB): 72; Vin Max(V): 25; Vin Min(V): 2.55; DatasheetVersion: Rev. F; PackageVersion: Jun-10; PackageReference: T-3; PackageDescription: 3-Pin Plastic TO-220, Body 10.2235 x 4.3815 mm, Pitch 2.54 mm; Supplier 1: Digi-Key; Supplier Part Number 1: LT1086CT-2.85-ND; RoHS: FALSE; Mounting Technology: Through Hole; ComponentLink1Description: Manufacturer URL; ComponentLink1URL: http://www.linear.com/; ComponentLink2Description: Datasheet; ComponentLink2URL: http://cds.linear.com/docs/en/datasheet/1086ffs.pdf; ComponentLink3Description: Package Specification; ComponentLink3URL: http://cds.linear.com/docs/en/packaging/TO-220_3_05-08-1420.pdf
footprint LT-T-3 (T, 3-Leads, Body 10.55x4.6mm, Pitch 2.54mm)
pins: 1 GND (power), 2 VOUT (power), 3 VIN (power)

## LT1086CT-2.85#PBF
designator U?
1.5 A Low Dropout Positive Regulator, 2.55 to 25 V Vin, 2.85 V Vout, 3-pin FM (T-3), 0 to 150 degC, Pb-Free; Manufacturer: Linear Technology; PartNumber: LT1086CT-2.85#PBF; Discrete Pass Element: no; Dropout Voltage(V): 1.3; Iout(mA): 1500; Isupply(mA): 5; Number of Outputs: 1; Output Voltage: 2.85 V; PSRR(dB): 72; Vin Max(V): 25; Vin Min(V): 2.55; DatasheetVersion: Rev. F; PackageVersion: Jun-10; PackageReference: T-3; PackageDescription: 3-Pin Plastic TO-220, Body 10.2235 x 4.3815 mm, Pitch 2.54 mm; Supplier 1: Digi-Key; Supplier Part Number 1: LT1086CT-2.85#PBF-ND; RoHS: TRUE; Mounting Technology: Through Hole; ComponentLink1Description: Manufacturer URL; ComponentLink1URL: http://www.linear.com/; ComponentLink2Description: Datasheet; ComponentLink2URL: http://cds.linear.com/docs/en/datasheet/1086ffs.pdf; ComponentLink3Description: Package Specification; ComponentLink3URL: http://cds.linear.com/docs/en/packaging/TO-220_3_05-08-1420.pdf
footprint LT-T-3 (T, 3-Leads, Body 10.55x4.6mm, Pitch 2.54mm)
pins: 1 GND (power), 2 VOUT (power), 3 VIN (power)

## LT1086CT-3.3
designator U?
1.5 A Low Dropout Positive Regulator, 2.55 to 25 V Vin, 3.3 V Vout, 3-pin FM (T-3), 0 to 150 degC; Manufacturer: Linear Technology; PartNumber: LT1086CT-3.3; Discrete Pass Element: no; Dropout Voltage(V): 1.3; Iout(mA): 1500; Isupply(mA): 5; Number of Outputs: 1; Output Voltage: 3.3 V; PSRR(dB): 72; Vin Max(V): 25; Vin Min(V): 2.55; DatasheetVersion: Rev. F; PackageVersion: Jun-10; PackageReference: T-3; PackageDescription: 3-Pin Plastic TO-220, Body 10.2235 x 4.3815 mm, Pitch 2.54 mm; Supplier 1: Digi-Key; Supplier Part Number 1: LT1086CT-3.3-ND; Supplier 2: Newark; Supplier Part Number 2: 57M1550; RoHS: FALSE; Mounting Technology: Through Hole; ComponentLink1Description: Manufacturer URL; ComponentLink1URL: http://www.linear.com/; ComponentLink2Description: Datasheet; ComponentLink2URL: http://cds.linear.com/docs/en/datasheet/1086ffs.pdf; ComponentLink3Description: Package Specification; ComponentLink3URL: http://cds.linear.com/docs/en/packaging/TO-220_3_05-08-1420.pdf
footprint LT-T-3 (T, 3-Leads, Body 10.55x4.6mm, Pitch 2.54mm)
pins: 1 GND (power), 2 VOUT (power), 3 VIN (power)

## LT1086CT-3.3#PBF
designator U?
1.5 A Low Dropout Positive Regulator, 2.55 to 25 V Vin, 3.3 V Vout, 3-pin FM (T-3), 0 to 150 degC, Pb-Free; Manufacturer: Linear Technology; PartNumber: LT1086CT-3.3#PBF; Discrete Pass Element: no; Dropout Voltage(V): 1.3; Iout(mA): 1500; Isupply(mA): 5; Number of Outputs: 1; Output Voltage: 3.3 V; PSRR(dB): 72; Vin Max(V): 25; Vin Min(V): 2.55; DatasheetVersion: Rev. F; PackageVersion: Jun-10; PackageReference: T-3; PackageDescription: 3-Pin Plastic TO-220, Body 10.2235 x 4.3815 mm, Pitch 2.54 mm; Supplier 1: Digi-Key; Supplier Part Number 1: LT1086CT-3.3#PBF-ND; Supplier 2: Farnell; Supplier Part Number 2: 2295196; Supplier 3: Newark; Supplier Part Number 3: 57M1551; RoHS: TRUE; Mounting Technology: Through Hole; ComponentLink1Description: Manufacturer URL; ComponentLink1URL: http://www.linear.com/; ComponentLink2Description: Datasheet; ComponentLink2URL: http://cds.linear.com/docs/en/datasheet/1086ffs.pdf; ComponentLink3Description: Package Specification; ComponentLink3URL: http://cds.linear.com/docs/en/packaging/TO-220_3_05-08-1420.pdf
footprint LT-T-3 (T, 3-Leads, Body 10.55x4.6mm, Pitch 2.54mm)
pins: 1 GND (power), 2 VOUT (power), 3 VIN (power)

## LT1086CT-3.6
designator U?
1.5 A Low Dropout Positive Regulator, 2.55 to 25 V Vin, 3.6 V Vout, 3-pin FM (T-3), 0 to 150 degC; Manufacturer: Linear Technology; PartNumber: LT1086CT-3.6; Discrete Pass Element: no; Dropout Voltage(V): 1.3; Iout(mA): 1500; Isupply(mA): 5; Number of Outputs: 1; Output Voltage: 3.6 V; PSRR(dB): 72; Vin Max(V): 25; Vin Min(V): 2.55; DatasheetVersion: Rev. F; PackageVersion: Jun-10; PackageReference: T-3; PackageDescription: 3-Pin Plastic TO-220, Body 10.2235 x 4.3815 mm, Pitch 2.54 mm; Supplier 1: Digi-Key; Supplier Part Number 1: LT1086CT-3.6-ND; RoHS: FALSE; Mounting Technology: Through Hole; ComponentLink1Description: Manufacturer URL; ComponentLink1URL: http://www.linear.com/; ComponentLink2Description: Datasheet; ComponentLink2URL: http://cds.linear.com/docs/en/datasheet/1086ffs.pdf; ComponentLink3Description: Package Specification; ComponentLink3URL: http://cds.linear.com/docs/en/packaging/TO-220_3_05-08-1420.pdf
footprint LT-T-3 (T, 3-Leads, Body 10.55x4.6mm, Pitch 2.54mm)
pins: 1 GND (power), 2 VOUT (power), 3 VIN (power)

## LT1086CT-3.6#PBF
designator U?
1.5 A Low Dropout Positive Regulator, 2.55 to 25 V Vin, 3.6 V Vout, 3-pin FM (T-3), 0 to 150 degC, Pb-Free; Manufacturer: Linear Technology; PartNumber: LT1086CT-3.6#PBF; Discrete Pass Element: no; Dropout Voltage(V): 1.3; Iout(mA): 1500; Isupply(mA): 5; Number of Outputs: 1; Output Voltage: 3.6 V; PSRR(dB): 72; Vin Max(V): 25; Vin Min(V): 2.55; DatasheetVersion: Rev. F; PackageVersion: Jun-10; PackageReference: T-3; PackageDescription: 3-Pin Plastic TO-220, Body 10.2235 x 4.3815 mm, Pitch 2.54 mm; Supplier 1: Newark; Supplier Part Number 1: 57M1553; RoHS: TRUE; Mounting Technology: Through Hole; ComponentLink1Description: Manufacturer URL; ComponentLink1URL: http://www.linear.com/; ComponentLink2Description: Datasheet; ComponentLink2URL: http://cds.linear.com/docs/en/datasheet/1086ffs.pdf; ComponentLink3Description: Package Specification; ComponentLink3URL: http://cds.linear.com/docs/en/packaging/TO-220_3_05-08-1420.pdf
footprint LT-T-3 (T, 3-Leads, Body 10.55x4.6mm, Pitch 2.54mm)
pins: 1 GND (power), 2 VOUT (power), 3 VIN (power)

## LT1086CT-5
designator U?
1.5 A Low Dropout Positive Regulator, 2.55 to 25 V Vin, 5 V Vout, 3-pin FM (T-3), 0 to 150 degC; Manufacturer: Linear Technology; PartNumber: LT1086CT-5; Discrete Pass Element: no; Dropout Voltage(V): 1.3; Iout(mA): 1500; Isupply(mA): 5; Number of Outputs: 1; Output Voltage: 5 V; PSRR(dB): 68; Vin Max(V): 25; Vin Min(V): 2.55; DatasheetVersion: Rev. F; PackageVersion: Jun-10; PackageReference: T-3; PackageDescription: 3-Pin Plastic TO-220, Body 10.2235 x 4.3815 mm, Pitch 2.54 mm; Supplier 1: Digi-Key; Supplier Part Number 1: LT1086CT-5-ND; Supplier 2: Newark; Supplier Part Number 2: 57M1554; RoHS: FALSE; Mounting Technology: Through Hole; ComponentLink1Description: Manufacturer URL; ComponentLink1URL: http://www.linear.com/; ComponentLink2Description: Datasheet; ComponentLink2URL: http://cds.linear.com/docs/en/datasheet/1086ffs.pdf; ComponentLink3Description: Package Specification; ComponentLink3URL: http://cds.linear.com/docs/en/packaging/TO-220_3_05-08-1420.pdf
footprint LT-T-3 (T, 3-Leads, Body 10.55x4.6mm, Pitch 2.54mm)
pins: 1 GND (power), 2 VOUT (power), 3 VIN (power)

## LT1086CT-5#PBF
designator U?
1.5 A Low Dropout Positive Regulator, 2.55 to 25 V Vin, 5 V Vout, 3-pin FM (T-3), 0 to 150 degC, Pb-Free; Manufacturer: Linear Technology; PartNumber: LT1086CT-5#PBF; Discrete Pass Element: no; Dropout Voltage(V): 1.3; Iout(mA): 1500; Isupply(mA): 5; Number of Outputs: 1; Output Voltage: 5 V; PSRR(dB): 68; Vin Max(V): 25; Vin Min(V): 2.55; DatasheetVersion: Rev. F; PackageVersion: Jun-10; PackageReference: T-3; PackageDescription: 3-Pin Plastic TO-220, Body 10.2235 x 4.3815 mm, Pitch 2.54 mm; Supplier 1: Digi-Key; Supplier Part Number 1: LT1086CT-5#PBF-ND; Supplier 2: Farnell; Supplier Part Number 2: 9559906; Supplier 3: Newark; Supplier Part Number 3: 57M1555; RoHS: TRUE; Mounting Technology: Through Hole; ComponentLink1Description: Manufacturer URL; ComponentLink1URL: http://www.linear.com/; ComponentLink2Description: Datasheet; ComponentLink2URL: http://cds.linear.com/docs/en/datasheet/1086ffs.pdf; ComponentLink3Description: Package Specification; ComponentLink3URL: http://cds.linear.com/docs/en/packaging/TO-220_3_05-08-1420.pdf
footprint LT-T-3 (T, 3-Leads, Body 10.55x4.6mm, Pitch 2.54mm)
pins: 1 GND (power), 2 VOUT (power), 3 VIN (power)

## LT1086CT-12
designator U?
1.5 A Low Dropout Positive Regulator, 2.55 to 25 V Vin, 12 V Vout, 3-pin FM (T-3), 0 to 150 degC; Manufacturer: Linear Technology; PartNumber: LT1086CT-12; Discrete Pass Element: no; Dropout Voltage(V): 1.3; Iout(mA): 1500; Isupply(mA): 5; Number of Outputs: 1; Output Voltage: 12 V; PSRR(dB): 60; Vin Max(V): 25; Vin Min(V): 2.55; DatasheetVersion: Rev. F; PackageVersion: Jun-10; PackageReference: T-3; PackageDescription: 3-Pin Plastic TO-220, Body 10.2235 x 4.3815 mm, Pitch 2.54 mm; Supplier 1: Digi-Key; Supplier Part Number 1: LT1086CT-12-ND; Supplier 2: Newark; Supplier Part Number 2: 57M1546; RoHS: FALSE; Mounting Technology: Through Hole; ComponentLink1Description: Manufacturer URL; ComponentLink1URL: http://www.linear.com/; ComponentLink2Description: Datasheet; ComponentLink2URL: http://cds.linear.com/docs/en/datasheet/1086ffs.pdf; ComponentLink3Description: Package Specification; ComponentLink3URL: http://cds.linear.com/docs/en/packaging/TO-220_3_05-08-1420.pdf
footprint LT-T-3 (T, 3-Leads, Body 10.55x4.6mm, Pitch 2.54mm)
pins: 1 GND (power), 2 VOUT (power), 3 VIN (power)

## LT1086CT-12#PBF
designator U?
1.5 A Low Dropout Positive Regulator, 2.55 to 25 V Vin, 12 V Vout, 3-pin FM (T-3), 0 to 150 degC, Pb-Free; Manufacturer: Linear Technology; PartNumber: LT1086CT-12#PBF; Discrete Pass Element: no; Dropout Voltage(V): 1.3; Iout(mA): 1500; Isupply(mA): 5; Number of Outputs: 1; Output Voltage: 12 V; PSRR(dB): 60; Vin Max(V): 25; Vin Min(V): 2.55; DatasheetVersion: Rev. F; PackageVersion: Jun-10; PackageReference: T-3; PackageDescription: 3-Pin Plastic TO-220, Body 10.2235 x 4.3815 mm, Pitch 2.54 mm; Supplier 1: Digi-Key; Supplier Part Number 1: LT1086CT-12#PBF-ND; Supplier 2: Farnell; Supplier Part Number 2: 9559884; Supplier 3: Newark; Supplier Part Number 3: 57M1547; RoHS: TRUE; Mounting Technology: Through Hole; ComponentLink1Description: Manufacturer URL; ComponentLink1URL: http://www.linear.com/; ComponentLink2Description: Datasheet; ComponentLink2URL: http://cds.linear.com/docs/en/datasheet/1086ffs.pdf; ComponentLink3Description: Package Specification; ComponentLink3URL: http://cds.linear.com/docs/en/packaging/TO-220_3_05-08-1420.pdf
footprint LT-T-3 (T, 3-Leads, Body 10.55x4.6mm, Pitch 2.54mm)
pins: 1 GND (power), 2 VOUT (power), 3 VIN (power)

## LT1086IM
designator U?
1.5 A Low Dropout Positive Regulator, 2.55 to 25 V Vin, Adjustable Vout, 3-pin DPAK (M-3), -40 to 150 degC; Manufacturer: Linear Technology; PartNumber: LT1086IM; Discrete Pass Element: no; Dropout Voltage(V): 1.3; Iout(mA): 1500; Isupply(mA): 5; Number of Outputs: 1; Output Voltage: Adj; PSRR(dB): 75; Vin Max(V): 25; Vin Min(V): 2.55; Vout Max(V): 23.5; Vout Min(V): 1.25; DatasheetVersion: Rev. F; PackageVersion: Rev. F, 05/2012; PackageReference: M-3; PackageDescription: 3-Pin Plastic DD Pak, Body 10.2235 x 8.89 mm, Pitch 2.54 mm; Supplier 1: Digi-Key; Supplier Part Number 1: LT1086IM-ND; Supplier 2: Newark; Supplier Part Number 2: 57M1557; RoHS: FALSE; Mounting Technology: Surface Mount; ComponentLink1Description: Manufacturer URL; ComponentLink1URL: http://www.linear.com/; ComponentLink2Description: Datasheet; ComponentLink2URL: http://cds.linear.com/docs/en/datasheet/1086ffs.pdf; ComponentLink3Description: Package Specification; ComponentLink3URL: http://cds.linear.com/docs/en/packaging/05081460_F_M.pdf
footprint LT-M-3_N (DPAK, 3-Leads, Body 10.55x9.4mm, Pitch 2.54mm, IPC Medium Density)
footprint LT-M-3_L (DPAK, 3-Leads, Body 10.55x9.4mm, Pitch 2.54mm, IPC High Density)
footprint LT-M-3_M (DPAK, 3-Leads, Body 10.55x9.4mm, Pitch 2.54mm, IPC Low Density)
pins: 1 ADJ (in), 2 VOUT (power), 3 VIN (power), 4 VOUT (power)

## LT1086IM#PBF
designator U?
1.5 A Low Dropout Positive Regulator, 2.55 to 25 V Vin, Adjustable Vout, 3-pin DPAK (M-3), -40 to 150 degC, Pb-Free; Manufacturer: Linear Technology; PartNumber: LT1086IM#PBF; Discrete Pass Element: no; Dropout Voltage(V): 1.3; Iout(mA): 1500; Isupply(mA): 5; Number of Outputs: 1; Output Voltage: Adj; PSRR(dB): 75; Vin Max(V): 25; Vin Min(V): 2.55; Vout Max(V): 23.5; Vout Min(V): 1.25; DatasheetVersion: Rev. F; PackageVersion: Rev. F, 05/2012; PackageReference: M-3; PackageDescription: 3-Pin Plastic DD Pak, Body 10.2235 x 8.89 mm, Pitch 2.54 mm; Supplier 1: Digi-Key; Supplier Part Number 1: LT1086IM#PBF-ND; Supplier 2: Farnell; Supplier Part Number 2: 1663351; Supplier 3: Newark; Supplier Part Number 3: 57M1562; RoHS: TRUE; Mounting Technology: Surface Mount; ComponentLink1Description: Manufacturer URL; ComponentLink1URL: http://www.linear.com/; ComponentLink2Description: Datasheet; ComponentLink2URL: http://cds.linear.com/docs/en/datasheet/1086ffs.pdf; ComponentLink3Description: Package Specification; ComponentLink3URL: http://cds.linear.com/docs/en/packaging/05081460_F_M.pdf
footprint LT-M-3_N (DPAK, 3-Leads, Body 10.55x9.4mm, Pitch 2.54mm, IPC Medium Density)
footprint LT-M-3_L (DPAK, 3-Leads, Body 10.55x9.4mm, Pitch 2.54mm, IPC High Density)
footprint LT-M-3_M (DPAK, 3-Leads, Body 10.55x9.4mm, Pitch 2.54mm, IPC Low Density)
pins: 1 ADJ (in), 2 VOUT (power), 3 VIN (power), 4 VOUT (power)

## LT1086IM#TR
designator U?
1.5 A Low Dropout Positive Regulator, 2.55 to 25 V Vin, Adjustable Vout, 3-pin DPAK (M-3), -40 to 150 degC, Tape and Reel; Manufacturer: Linear Technology; PartNumber: LT1086IM#TR; Discrete Pass Element: no; Dropout Voltage(V): 1.3; Iout(mA): 1500; Isupply(mA): 5; Number of Outputs: 1; Output Voltage: Adj; PSRR(dB): 75; Vin Max(V): 25; Vin Min(V): 2.55; Vout Max(V): 23.5; Vout Min(V): 1.25; DatasheetVersion: Rev. F; PackageVersion: Rev. F, 05/2012; PackageReference: M-3; PackageDescription: 3-Pin Plastic DD Pak, Body 10.2235 x 8.89 mm, Pitch 2.54 mm; Supplier 1: Digi-Key; Supplier Part Number 1: LT1086IM#TR-ND; Supplier 2: Newark; Supplier Part Number 2: 57M1563; Packing: Tape and Reel; RoHS: FALSE; Mounting Technology: Surface Mount; ComponentLink1Description: Manufacturer URL; ComponentLink1URL: http://www.linear.com/; ComponentLink2Description: Datasheet; ComponentLink2URL: http://cds.linear.com/docs/en/datasheet/1086ffs.pdf; ComponentLink3Description: Package Specification; ComponentLink3URL: http://cds.linear.com/docs/en/packaging/05081460_F_M.pdf
footprint LT-M-3_N (DPAK, 3-Leads, Body 10.55x9.4mm, Pitch 2.54mm, IPC Medium Density)
footprint LT-M-3_L (DPAK, 3-Leads, Body 10.55x9.4mm, Pitch 2.54mm, IPC High Density)
footprint LT-M-3_M (DPAK, 3-Leads, Body 10.55x9.4mm, Pitch 2.54mm, IPC Low Density)
pins: 1 ADJ (in), 2 VOUT (power), 3 VIN (power), 4 VOUT (power)

## LT1086IM#TRPBF
designator U?
1.5 A Low Dropout Positive Regulator, 2.55 to 25 V Vin, Adjustable Vout, 3-pin DPAK (M-3), -40 to 150 degC, Pb-Free, Tape and Reel; Manufacturer: Linear Technology; PartNumber: LT1086IM#TRPBF; Discrete Pass Element: no; Dropout Voltage(V): 1.3; Iout(mA): 1500; Isupply(mA): 5; Number of Outputs: 1; Output Voltage: Adj; PSRR(dB): 75; Vin Max(V): 25; Vin Min(V): 2.55; Vout Max(V): 23.5; Vout Min(V): 1.25; DatasheetVersion: Rev. F; PackageVersion: Rev. F, 05/2012; PackageReference: M-3; PackageDescription: 3-Pin Plastic DD Pak, Body 10.2235 x 8.89 mm, Pitch 2.54 mm; Supplier 1: Digi-Key; Supplier Part Number 1: LT1086IM#TRPBF-ND; Supplier 2: Newark; Supplier Part Number 2: 57M1564; Packing: Tape and Reel; RoHS: TRUE; Mounting Technology: Surface Mount; ComponentLink1Description: Manufacturer URL; ComponentLink1URL: http://www.linear.com/; ComponentLink2Description: Datasheet; ComponentLink2URL: http://cds.linear.com/docs/en/datasheet/1086ffs.pdf; ComponentLink3Description: Package Specification; ComponentLink3URL: http://cds.linear.com/docs/en/packaging/05081460_F_M.pdf
footprint LT-M-3_N (DPAK, 3-Leads, Body 10.55x9.4mm, Pitch 2.54mm, IPC Medium Density)
footprint LT-M-3_L (DPAK, 3-Leads, Body 10.55x9.4mm, Pitch 2.54mm, IPC High Density)
footprint LT-M-3_M (DPAK, 3-Leads, Body 10.55x9.4mm, Pitch 2.54mm, IPC Low Density)
pins: 1 ADJ (in), 2 VOUT (power), 3 VIN (power), 4 VOUT (power)

## LT1086IM-3.3
designator U?
1.5 A Low Dropout Positive Regulator, 2.55 to 25 V Vin, 3.3 V Vout, 3-pin DPAK (M-3), -40 to 150 degC; Manufacturer: Linear Technology; PartNumber: LT1086IM-3.3; Discrete Pass Element: no; Dropout Voltage(V): 1.25; Iout(mA): 1500; Isupply(mA): 5; Number of Outputs: 1; Output Voltage: 3.3 V; PSRR(dB): 72; Vin Max(V): 25; Vin Min(V): 2.55; DatasheetVersion: Rev. F; PackageVersion: Rev. F, 05/2012; PackageReference: M-3; PackageDescription: 3-Pin Plastic DD Pak, Body 10.2235 x 8.89 mm, Pitch 2.54 mm; Supplier 1: Digi-Key; Supplier Part Number 1: LT1086IM-3.3-ND; Supplier 2: Newark; Supplier Part Number 2: 57M1558; RoHS: FALSE; Mounting Technology: Surface Mount; ComponentLink1Description: Manufacturer URL; ComponentLink1URL: http://www.linear.com/; ComponentLink2Description: Datasheet; ComponentLink2URL: http://cds.linear.com/docs/en/datasheet/1086ffs.pdf; ComponentLink3Description: Package Specification; ComponentLink3URL: http://cds.linear.com/docs/en/packaging/05081460_F_M.pdf
footprint LT-M-3_N (DPAK, 3-Leads, Body 10.55x9.4mm, Pitch 2.54mm, IPC Medium Density)
footprint LT-M-3_L (DPAK, 3-Leads, Body 10.55x9.4mm, Pitch 2.54mm, IPC High Density)
footprint LT-M-3_M (DPAK, 3-Leads, Body 10.55x9.4mm, Pitch 2.54mm, IPC Low Density)
pins: 1 GND (power), 2 VOUT (power), 3 VIN (power), 4 OUT (power)